# Altium schematic symbol library SCH - DRIVE - GATE - TI UCC27524A.Schlib: 1 symbol
Pins are listed as number, name and electrical type; pins without a type are passive.

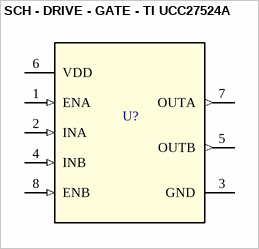
[diagram p0: symbol SCH - DRIVE - GATE - TI UCC27524A]

## SCH - DRIVE - GATE - TI UCC27524A
designator U?
footprint D0008A_N
footprint D0008A_N
pins: 1 ENA (in), 2 INA (in), 3 GND (power), 4 INB (in), 5 OUTB (out), 6 VDD (power), 7 OUTA (out), 8 ENB (in)